# EAGLE library part NEUTRINO (library RocketControlBoard)
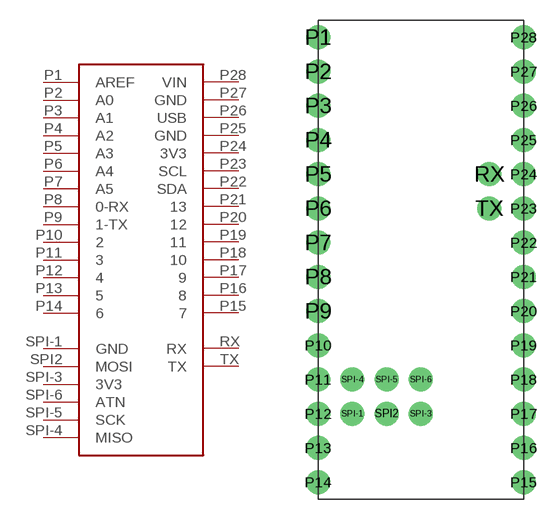
[diagram p9: symbol with the pads of NEUTRINO; footprint NEUTRINO]

Designator prefix -

## NEUTRINO  [NEUTRINO]
P1  AREF
P2  A0
P3  A1
P4  A2
P5  A3
P6  A4
P7  A5
P8  0-RX
P9  1-TX
P10  2
P11  3
P12  4
P13  5
P14  6
P15  7
P16  8
P17  9
P18  10
P19  11
P20  12
P21  13
P22  SDA
P23  SCL
P24  3V3
P25  GND
P26  USB
P27  GND
P28  VIN
RX  RX
SPI2  MOSI
SPI-1  GND
SPI-3  3V3
SPI-4  MISO
SPI-5  SCK
SPI-6  ATN
TX  TX

## Footprint NEUTRINO (pad centres in mm)
drill 1 pad 1.778: P1 0,0; P2 0,-2.54; P3 0,-5.08; P4 0,-7.62; P5 0,-10.16; P6 0,-12.7; P7 0,-15.24; P8 0,-17.78; P9 0,-20.32; P10 0,-22.86; P11 0,-25.4; P12 0,-27.94; P13 0,-30.48; P14 0,-33.02; P15 15.24,-33.02; P16 15.24,-30.48; P17 15.24,-27.94; P18 15.24,-25.4; P19 15.24,-22.86; P20 15.24,-20.32; P21 15.24,-17.78; P22 15.24,-15.24; P23 15.24,-12.7; P24 15.24,-10.16; P25 15.24,-7.62; P26 15.24,-5.08; P27 15.24,-2.54; P28 15.24,0; RX 12.7,-10.16; SPI2 5.08,-27.94; SPI-1 2.54,-27.94; SPI-3 7.62,-27.94; SPI-4 2.54,-25.4; SPI-5 5.08,-25.4; SPI-6 7.62,-25.4; TX 12.7,-12.7